# EAGLE library part RJSSE538002_RJSSE538002 (library TAStm32_v4)
Conn RJ-45 F 16 POS 1.27mm Solder RA SMD 16 Terminal 2 Port Cat 5
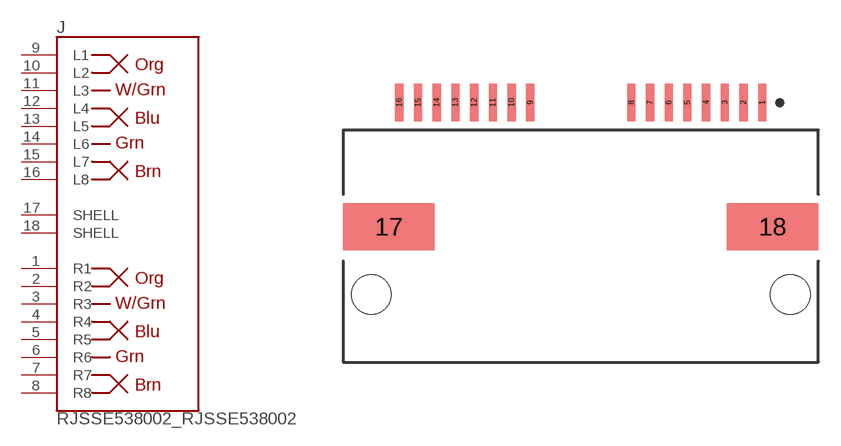
[diagram p0: symbol with the pads of RJSSE538002_AMPHENOL_RJSSE538002; footprint RJSSE538002_AMPHENOL_RJSSE538002]

Designator prefix J

## RJSSE538002_RJSSE538002 (AVAILABILITY: Unavailable; DESCRIPTION: Jack Modular Connector 8p8c _RJ45, Ethernet_ 90° Angle _Right_ Shielded, EMI Finger; MF: Amphenol Commercial Products; MP: RJSSE538002; PACKAGE: None; PRICE: None)  [RJSSE538002_AMPHENOL_RJSSE538002]
1  R1
2  R2
3  R3
4  R4
5  R5
6  R6
7  R7
8  R8
9  L1
10  L2
11  L3
12  L4
13  L5
14  L6
15  L7
16  L8
17  SHELL  pas
18  SHELL  pas

## Footprint RJSSE538002_AMPHENOL_RJSSE538002 (pad centres in mm)
smd 0.56 x 2.54: 1 12.325,13.04; 2 11.055,13.04; 3 9.785,13.04; 4 8.515,13.04; 5 7.245,13.04; 6 5.975,13.04; 7 4.705,13.04; 8 3.435,13.04; 9 -3.425,13.04; 10 -4.695,13.04; 11 -5.965,13.04; 12 -7.235,13.04; 13 -8.505,13.04; 14 -9.775,13.04; 15 -11.045,13.04; 16 -12.315,13.04
smd 6.22 x 3.18: 17 -13.035,4.59; 18 13.025,4.59
hole 2.69 at -14.225,0
hole 2.69 at 14.225,0